# EAGLE library part DRV8833 (library magzor)
Dual H-bridge driver
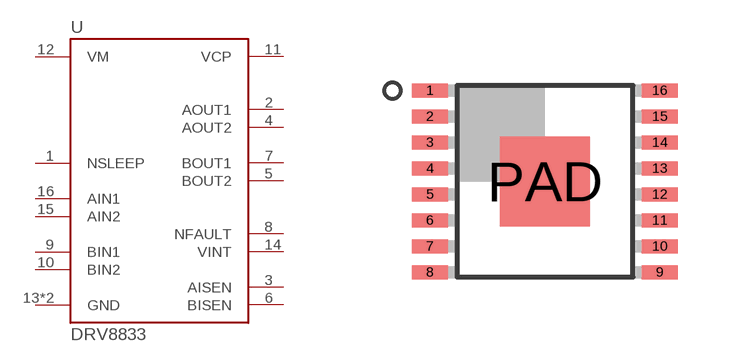
[diagram p3: symbol with the pads of TSSOP16-PAD; footprint TSSOP16-PAD]

Designator prefix U

## DRV8833PWP  [TSSOP16-PAD]
1  NSLEEP
2  AOUT1
3  AISEN
4  AOUT2
5  BOUT2
6  BISEN
7  BOUT1
8  NFAULT
9  BIN1
10  BIN2
11  VCP
12  VM
13  GND
14  VINT
15  AIN2
16  AIN1
PAD  GND

## Footprint TSSOP16-PAD (pad centres in mm)
smd 0.9 x 0.35: 1 -2.875,2.275; 2 -2.875,1.625; 3 -2.875,0.975; 4 -2.875,0.325; 5 -2.875,-0.325; 6 -2.875,-0.975; 7 -2.875,-1.625; 8 -2.875,-2.275; 9 2.875,-2.275; 10 2.875,-1.625; 11 2.875,-0.975; 12 2.875,-0.325; 13 2.875,0.325; 14 2.875,0.975; 15 2.875,1.625; 16 2.875,2.275
smd 2.25 x 2.25: PAD 0,0